# EAGLE library part FH35C-41S-0.3SHW (library NewSDR)
41-Pin FFC Connector 0.3mm Pitch
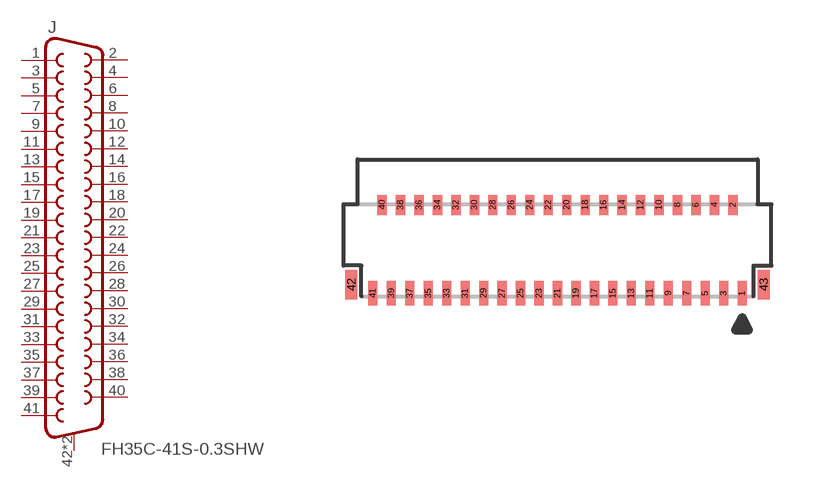
[diagram p224: symbol with the pads of FH35-41S-0.3SHW; footprint FH35-41S-0.3SHW]

Designator prefix J

## FH35C-41S-0.3SHW  [FH35-41S-0.3SHW]
1  1  pas
2  2  pas
3  3  pas
4  4  pas
5  5  pas
6  6  pas
7  7  pas
8  8  pas
9  9  pas
10  10  pas
11  11  pas
12  12  pas
13  13  pas
14  14  pas
15  15  pas
16  16  pas
17  17  pas
18  18  pas
19  19  pas
20  20  pas
21  21  pas
22  22  pas
23  23  pas
24  24  pas
25  25  pas
26  26  pas
27  27  pas
28  28  pas
29  29  pas
30  30  pas
31  31  pas
32  32  pas
33  33  pas
34  34  pas
35  35  pas
36  36  pas
37  37  pas
38  38  pas
39  39  pas
40  40  pas
41  41  pas
42  GND  pas
43  GND  pas

## Footprint FH35-41S-0.3SHW (pad centres in mm)
Hirose 41-pin FFC Connector 0.3mm Pitch
smd 0.3 x 0.8: 1 6,-1.4; 3 5.4,-1.4; 5 4.8,-1.4; 7 4.2,-1.4; 9 3.6,-1.4; 11 3,-1.4; 13 2.4,-1.4; 15 1.8,-1.4; 17 1.2,-1.4; 19 0.6,-1.4; 21 0,-1.4; 23 -0.6,-1.4; 25 -1.2,-1.4; 27 -1.8,-1.4; 29 -2.4,-1.4; 31 -3,-1.4; 33 -3.6,-1.4; 35 -4.2,-1.4; 37 -4.8,-1.4; 39 -5.4,-1.4; 41 -6,-1.4
smd 0.3 x 0.65: 2 5.7,1.475; 4 5.1,1.475; 6 4.5,1.475; 8 3.9,1.475; 10 3.3,1.475; 12 2.7,1.475; 14 2.1,1.475; 16 1.5,1.475; 18 0.9,1.475; 20 0.3,1.475; 22 -0.3,1.475; 24 -0.9,1.475; 26 -1.5,1.475; 28 -2.1,1.475; 30 -2.7,1.475; 32 -3.3,1.475; 34 -3.9,1.475; 36 -4.5,1.475; 38 -5.1,1.475; 40 -5.7,1.475
smd 0.4 x 0.95: 42 -6.7,-1.125; 43 6.7,-1.125